# EAGLE library part FPC26 (library we-con)
FPC/ZIF Connector
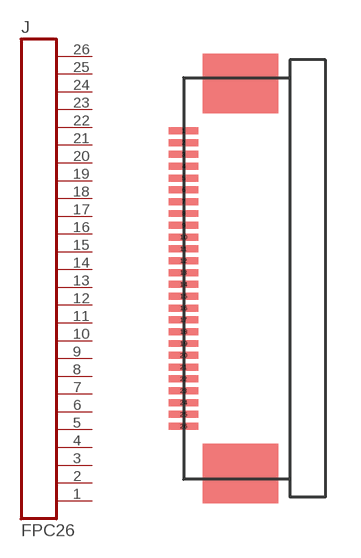
[diagram p23: symbol with the pads of FPC26-0.5; footprint FPC26-0.5]

Designator prefix J

## FPC26  [FPC26-0.5]
1  1  pas
2  2  pas
3  3  pas
4  4  pas
5  5  pas
6  6  pas
7  7  pas
8  8  pas
9  9  pas
10  10  pas
11  11  pas
12  12  pas
13  13  pas
14  14  pas
15  15  pas
16  16  pas
17  17  pas
18  18  pas
19  19  pas
20  20  pas
21  21  pas
22  22  pas
23  23  pas
24  24  pas
25  25  pas
26  26  pas

## Footprint FPC26-0.5 (pad centres in mm)
26 Pins 0.5mm
smd 1.27 x 0.279: 1 0,6.25; 2 0,5.75; 3 0,5.25; 4 0,4.75; 5 0,4.25; 6 0,3.75; 7 0,3.25; 8 0,2.75; 9 0,2.25; 10 0,1.75; 11 0,1.25; 12 0,0.75; 13 0,0.25; 14 0,-0.25; 15 0,-0.75; 16 0,-1.25; 17 0,-1.75; 18 0,-2.25; 19 0,-2.75; 20 0,-3.25; 21 0,-3.75; 22 0,-4.25; 23 0,-4.75; 24 0,-5.25; 25 0,-5.75; 26 0,-6.25